# Altium schematic symbol library TV NQM.SchLib: 10 symbols
Pins are listed as number, name and electrical type; pins without a type are passive.

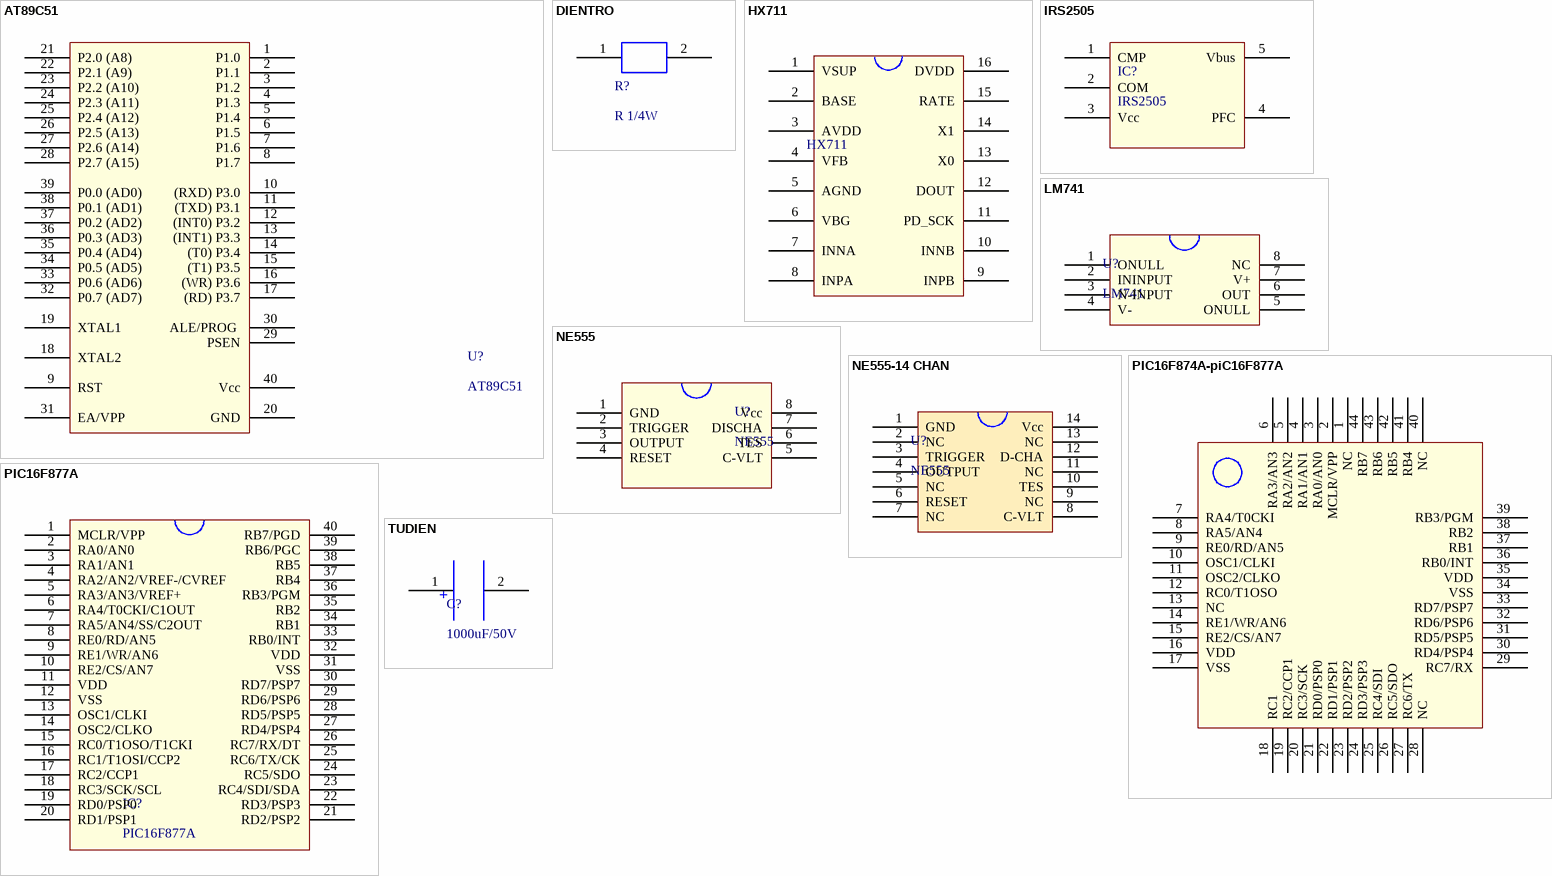
[diagram p0: symbols AT89C51 to TUDIEN]

## AT89C51
designator U?
footprint AT89C51
pins: 1 P1.0, 2 P1.1, 3 P1.2, 4 P1.3, 5 P1.4, 6 P1.5, 7 P1.6, 8 P1.7, 9 RST, 10 (RXD) P3.0, 11 (TXD) P3.1, 12 (INT0) P3.2, 13 (INT1) P3.3, 14 (T0) P3.4, 15 (T1) P3.5, 16 (WR) P3.6, 17 (RD) P3.7, 18 XTAL2, 19 XTAL1, 20 GND, 21 P2.0 (A8), 22 P2.1 (A9), 23 P2.2 (A10), 24 P2.3 (A11), 25 P2.4 (A12), 26 P2.5 (A13), 27 P2.6 (A14), 28 P2.7 (A15), 29 PSEN, 30 ALE/PROG , 31 EA/VPP, 32 P0.7 (AD7), 33 P0.6 (AD6), 34 P0.5 (AD5), 35 P0.4 (AD4), 36 P0.3 (AD3), 37 P0.2 (AD2), 38 P0.1 (AD1), 39 P0.0 (AD0), 40 Vcc

## DIENTRO
designator R?, comment R 1/4W
footprint R1W
pins: 1, 2

## HX711
designator ?
footprint HX711
pins: 1 VSUP, 2 BASE, 3 AVDD, 4 VFB, 5 AGND, 6 VBG, 7 INNA, 8 INPA, 9 INPB, 10 INNB, 11 PD_SCK, 12 DOUT, 13 X0, 14 X1, 15 RATE, 16 DVDD

## IRS2505
designator IC?
footprint IRS2505
pins: 1 CMP, 2 COM, 3 Vcc, 4 PFC, 5 Vbus

## LM741
designator U?
footprint LM741
pins: 1 ONULL, 2 ININPUT, 3 N-INPUT, 4 V-, 5 ONULL, 6 OUT, 7 V+, 8 NC

## NE555
designator U?
footprint NE555 - 8 chan
pins: 1 GND, 2 TRIGGER , 3 OUTPUT, 4 RESET, 5 C-VLT, 6 TES, 7 DISCHA, 8 Vcc

## NE555-14 CHAN
designator U?, comment NE555
pins: 1 GND, 2 NC, 3 TRIGGER , 4 OUTPUT, 5 NC, 6 RESET, 7 NC, 8 C-VLT, 9 NC, 10 TES, 11 NC, 12 D-CHA, 13 NC, 14 Vcc

## PIC16F874A-piC16F877A
designator PIC16F874A-PIC16F877A, comment IC?  (value not drawn)
footprint PIC16F874A
pins: 1 NC, 2 MCLR/VPP, 3 RA0/AN0, 4 RA1/AN1, 5 RA2/AN2, 6 RA3/AN3, 7 RA4/T0CKI, 8 RA5/AN4, 9 RE0/RD/AN5, 10 OSC1/CLKI, 11 OSC2/CLKO, 12 RC0/T1OSO, 13 NC, 14 RE1/WR/AN6, 15 RE2/CS/AN7, 16 VDD, 17 VSS, 18 RC1, 19 RC2/CCP1, 20 RC3/SCK, 21 RD0/PSP0, 22 RD1/PSP1, 23 RD2/PSP2, 24 RD3/PSP3, 25 RC4/SDI, 26 RC5/SDO, 27 RC6/TX, 28 NC, 29 RC7/RX, 30 RD4/PSP4, 31 RD5/PSP5, 32 RD6/PSP6, 33 RD7/PSP7, 34 VSS, 35 VDD, 36 RB0/INT, 37 RB1, 38 RB2, 39 RB3/PGM, 40 NC, 41 RB4, 42 RB5, 43 RB6, 44 RB7

## PIC16F877A
designator IC?
footprint pic16f877a
pins: 1 MCLR/VPP, 2 RA0/AN0, 3 RA1/AN1, 4 RA2/AN2/VREF-/CVREF, 5 RA3/AN3/VREF+, 6 RA4/T0CKI/C1OUT, 7 RA5/AN4/SS/C2OUT, 8 RE0/RD/AN5, 9 RE1/WR/AN6, 10 RE2/CS/AN7, 11 VDD, 12 VSS, 13 OSC1/CLKI, 14 OSC2/CLKO, 15 RC0/T1OSO/T1CKI, 16 RC1/T1OSI/CCP2, 17 RC2/CCP1, 18 RC3/SCK/SCL, 19 RD0/PSP0, 20 RD1/PSP1, 21 RD2/PSP2, 22 RD3/PSP3, 23 RC4/SDI/SDA, 24 RC5/SDO, 25 RC6/TX/CK, 26 RC7/RX/DT, 27 RD4/PSP4, 28 RD5/PSP5, 29 RD6/PSP6, 30 RD7/PSP7, 31 VSS, 32 VDD, 33 RB0/INT, 34 RB1, 35 RB2, 36 RB3/PGM, 37 RB4, 38 RB5, 39 RB6/PGC, 40 RB7/PGD

## TUDIEN
designator C?, comment 1000uF/50V
footprint 100uF/25V
pins: 1, 2
text: +